# Altium schematic symbol library Motor Driver ICs, Gate Drivers.SchLib: 1 symbol
Pins are listed as number, name and electrical type; pins without a type are passive.

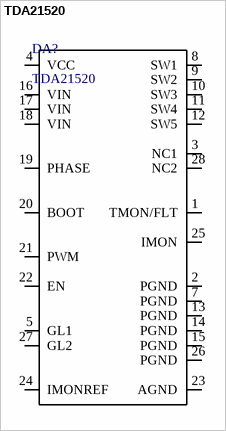
[diagram p0: symbol TDA21520]

## TDA21520
designator DA?
Half Bridge. Motor Driver ICs/Gate Drivers
footprint IQFN-25
pins: 1 TMON/FLT, 2 PGND, 3 NC1, 4 VCC, 5 GL1, 7 PGND, 8 SW1, 9 SW2, 10 SW3, 11 SW4, 12 SW5, 13 PGND, 14 PGND, 15 PGND, 16 VIN, 17 VIN, 18 VIN, 19 PHASE, 20 BOOT, 21 PWM, 22 EN, 23 AGND, 24 IMONREF, 25 IMON, 26 PGND, 27 GL2, 28 NC2